# EAGLE library part TPS2013AD (library ee_projects)
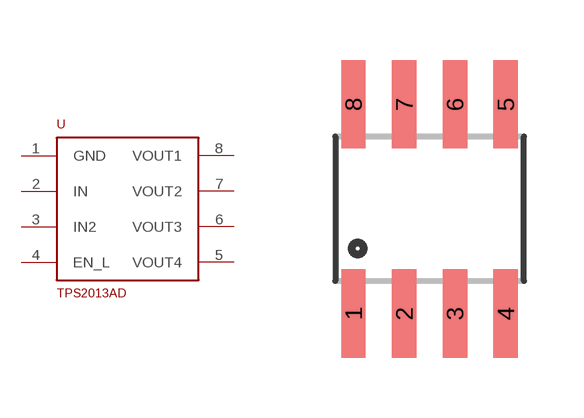
[diagram p15: symbol with the pads of SOIC8; footprint SOIC8]

Designator prefix -

## TPS2013AD  [SOIC8]
1  GND
2  IN
3  IN2
4  EN_L
5  VOUT4
6  VOUT3
7  VOUT2
8  VOUT1

## Footprint SOIC8 (pad centres in mm)
smd 0.61 x 2.21: 1 -1.905,-2.616; 2 -0.635,-2.616; 3 0.635,-2.616; 4 1.905,-2.616; 5 1.905,2.616; 6 0.635,2.616; 7 -0.635,2.616; 8 -1.905,2.616